# Altium integrated library LQW2BAS68NJ00L.IntLib: 1 symbol
Pins are listed as number, name and electrical type; pins without a type are passive.

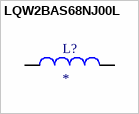
[diagram p0: symbol LQW2BAS68NJ00L]

## LQW2BAS68NJ00L
designator L?
Inductor with Inductance: 68nH Tol. +/-5%, Package: 0805 (2015); MP: LQW2BAS68NJ00L; MF: Murata; Value: *; Purchase-URL: https://pricing.snapeda.com/search/part/LQW2BAS68NJ00L/?ref=eda; Package: 2015 Murata; Price: None; SnapEDA_Link: https://www.snapeda.com/parts/LQW2BAS68NJ00L/Murata/view-part/1503682/?ref=snap; Check_prices: https://www.snapeda.com/parts/LQW2BAS68NJ00L/Murata/view-part/1503682/?ref=eda; Availability: Good
footprint INDC2015X152N
pins: 1, 2